# Altium footprint library SPMCA-027.PcbLib: 1 footprints
Each footprint in its own frame and in the unit in brackets; x right, y up, seen from the top. Pads: shape width x height; smd on the part's side, far side on the other; paste and mask are expansions set on the pad; w line width, h text height; cw(c..) or ccw(c..) is an arc to the next point about the centre after c.
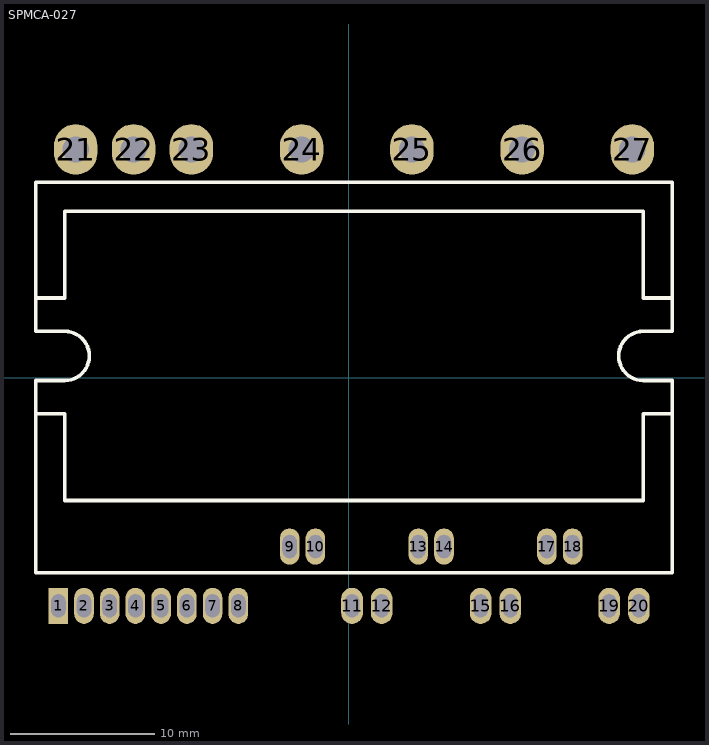
[diagram p0: the footprint, top view; thin cyan lines are the x and y axes]

## SPMCA-027 [mm]
pads (27):
  rect 1.35x2.5 hole 1 slot 1.6 at 90 deg: 1(-20.07,-15.78)
  oval 1.35x2.5 hole 1 slot 1.6 at 90 deg: 2(-18.292,-15.78) 3(-16.514,-15.78) 4(-14.736,-15.78) 5(-12.958,-15.78) 6(-11.18,-15.78) 7(-9.402,-15.78) 8(-7.624,-15.78) 9(-4.068,-11.68) 10(-2.291,-11.68) 13(4.821,-11.68) 14(6.6,-11.68) 17(13.712,-11.68) 18(15.49,-11.68)
  oval 1.5x2.5 hole 1 slot 1.6 at 90 deg: 11(0.241,-15.78) 12(2.291,-15.78) 15(9.131,-15.78) 16(11.181,-15.78) 19(18.021,-15.78) 20(20.071,-15.78)
  oval 3x3.5 hole 1.8: 21(-18.863,15.78) 22(-14.863,15.78) 23(-10.863,15.78) 24(-3.243,15.78) 25(4.377,15.78) 26(11.997,15.78) 27(19.617,15.78)
Top Overlay:
  lines w0.254: -21.623,-2.5 -19.623,-2.5 -19.624,-8.5 20.377,-8.5 20.377,-2.5 22.377,-2.5 ; -21.623,5.5 -19.624,5.5 -19.623,11.5 20.377,11.5 20.377,5.5 22.377,5.5 ; -21.623,-13.5 22.377,-13.5 22.377,-0.2 20.377,-0.2 cw(c20.377,1.5) 20.377,3.2 22.377,3.2 22.377,13.5 -21.623,13.5 -21.623,3.2 -19.623,3.2 cw(c-19.623,1.5) -19.623,-0.2 -21.623,-0.2 -21.623,-13.5